# EAGLE library part SN65LVDT388ADBT (library custom_dzmitry)
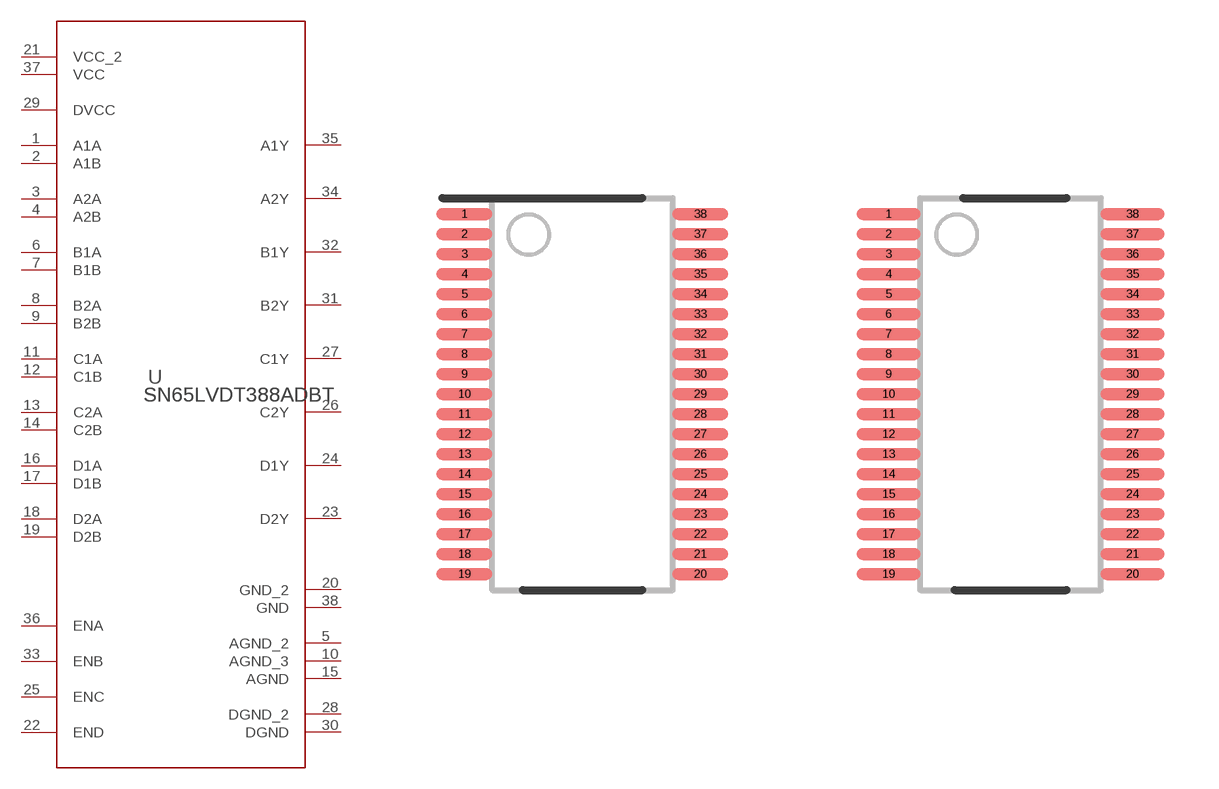
[diagram p0: symbol with the pads of DBT0038A_N; footprints DBT0038A_N, DBT0038A_M]

Designator prefix U

## SN65LVDT388ADBT (MANUFACTURER: Texas Instruments; PARTNUMBER: SN65LVDT388ADBTR; REFDES: RefDes; TYPE: TYPE; VALUE: Value)  [DBT0038A_N]
1  A1A  in
2  A1B  in
3  A2A  in
4  A2B  in
5  AGND_2  pwr
6  B1A  in
7  B1B  in
8  B2A  in
9  B2B  in
10  AGND_3  pwr
11  C1A  in
12  C1B  in
13  C2A  in
14  C2B  in
15  AGND  pwr
16  D1A  in
17  D1B  in
18  D2A  in
19  D2B  in
20  GND_2  pwr
21  VCC_2  pwr
22  END  in
23  D2Y  hiz
24  D1Y  hiz
25  ENC  in
26  C2Y  hiz
27  C1Y  hiz
28  DGND_2  pwr
29  DVCC  pwr
30  DGND  pwr
31  B2Y  hiz
32  B1Y  hiz
33  ENB  in
34  A2Y  hiz
35  A1Y  hiz
36  ENA  in
37  VCC  pwr
38  GND  pwr

## SN65LVDT388ADBTDBT0038A_M (MANUFACTURER: Texas Instruments; PARTNUMBER: SN65LVDT388ADBTR; REFDES: RefDes; TYPE: TYPE; VALUE: Value)  [DBT0038A_M]
Pads as for DBT0038A_N

## SN65LVDT388ADBTDBT0038A_L (MANUFACTURER: Texas Instruments; PARTNUMBER: SN65LVDT388ADBTR; REFDES: RefDes; TYPE: TYPE; VALUE: Value)  [DBT0038A_L]
Pads as for DBT0038A_N

## Footprint DBT0038A_N (pad centres in mm)
smd 1.4 x 0.3: 1 -2.95,4.5; 2 -2.95,4; 3 -2.95,3.5; 4 -2.95,3; 5 -2.95,2.5; 6 -2.95,2; 7 -2.95,1.5; 8 -2.95,1; 9 -2.95,0.5; 10 -2.95,0; 11 -2.95,-0.5; 12 -2.95,-1; 13 -2.95,-1.5; 14 -2.95,-2; 15 -2.95,-2.5; 16 -2.95,-3; 17 -2.95,-3.5; 18 -2.95,-4; 19 -2.95,-4.5; 20 2.95,-4.5; 21 2.95,-4; 22 2.95,-3.5; 23 2.95,-3; 24 2.95,-2.5; 25 2.95,-2; 26 2.95,-1.5; 27 2.95,-1; 28 2.95,-0.5; 29 2.95,0; 30 2.95,0.5; 31 2.95,1; 32 2.95,1.5; 33 2.95,2; 34 2.95,2.5; 35 2.95,3; 36 2.95,3.5; 37 2.95,4; 38 2.95,4.5

## Footprint DBT0038A_M (pad centres in mm)
smd 1.6 x 0.3: 1 -3.05,4.5; 2 -3.05,4; 3 -3.05,3.5; 4 -3.05,3; 5 -3.05,2.5; 6 -3.05,2; 7 -3.05,1.5; 8 -3.05,1; 9 -3.05,0.5; 10 -3.05,0; 11 -3.05,-0.5; 12 -3.05,-1; 13 -3.05,-1.5; 14 -3.05,-2; 15 -3.05,-2.5; 16 -3.05,-3; 17 -3.05,-3.5; 18 -3.05,-4; 19 -3.05,-4.5; 20 3.05,-4.5; 21 3.05,-4; 22 3.05,-3.5; 23 3.05,-3; 24 3.05,-2.5; 25 3.05,-2; 26 3.05,-1.5; 27 3.05,-1; 28 3.05,-0.5; 29 3.05,0; 30 3.05,0.5; 31 3.05,1; 32 3.05,1.5; 33 3.05,2; 34 3.05,2.5; 35 3.05,3; 36 3.05,3.5; 37 3.05,4; 38 3.05,4.5

## Footprint DBT0038A_L (pad centres in mm)
smd 1.2 x 0.25: 1 -2.85,4.5; 2 -2.85,4; 3 -2.85,3.5; 4 -2.85,3; 5 -2.85,2.5; 6 -2.85,2; 7 -2.85,1.5; 8 -2.85,1; 9 -2.85,0.5; 10 -2.85,0; 11 -2.85,-0.5; 12 -2.85,-1; 13 -2.85,-1.5; 14 -2.85,-2; 15 -2.85,-2.5; 16 -2.85,-3; 17 -2.85,-3.5; 18 -2.85,-4; 19 -2.85,-4.5; 20 2.85,-4.5; 21 2.85,-4; 22 2.85,-3.5; 23 2.85,-3; 24 2.85,-2.5; 25 2.85,-2; 26 2.85,-1.5; 27 2.85,-1; 28 2.85,-0.5; 29 2.85,0; 30 2.85,0.5; 31 2.85,1; 32 2.85,1.5; 33 2.85,2; 34 2.85,2.5; 35 2.85,3; 36 2.85,3.5; 37 2.85,4; 38 2.85,4.5